# Altium footprint library AMP Footprints.PcbLib: 903 footprints (part 34 of 58)
Each footprint in its own frame and in the unit in brackets; x right, y up, seen from the top. Pads: shape width x height; smd on the part's side, far side on the other; paste and mask are expansions set on the pad; w line width, h text height; cw(c..) or ccw(c..) is an arc to the next point about the centre after c.
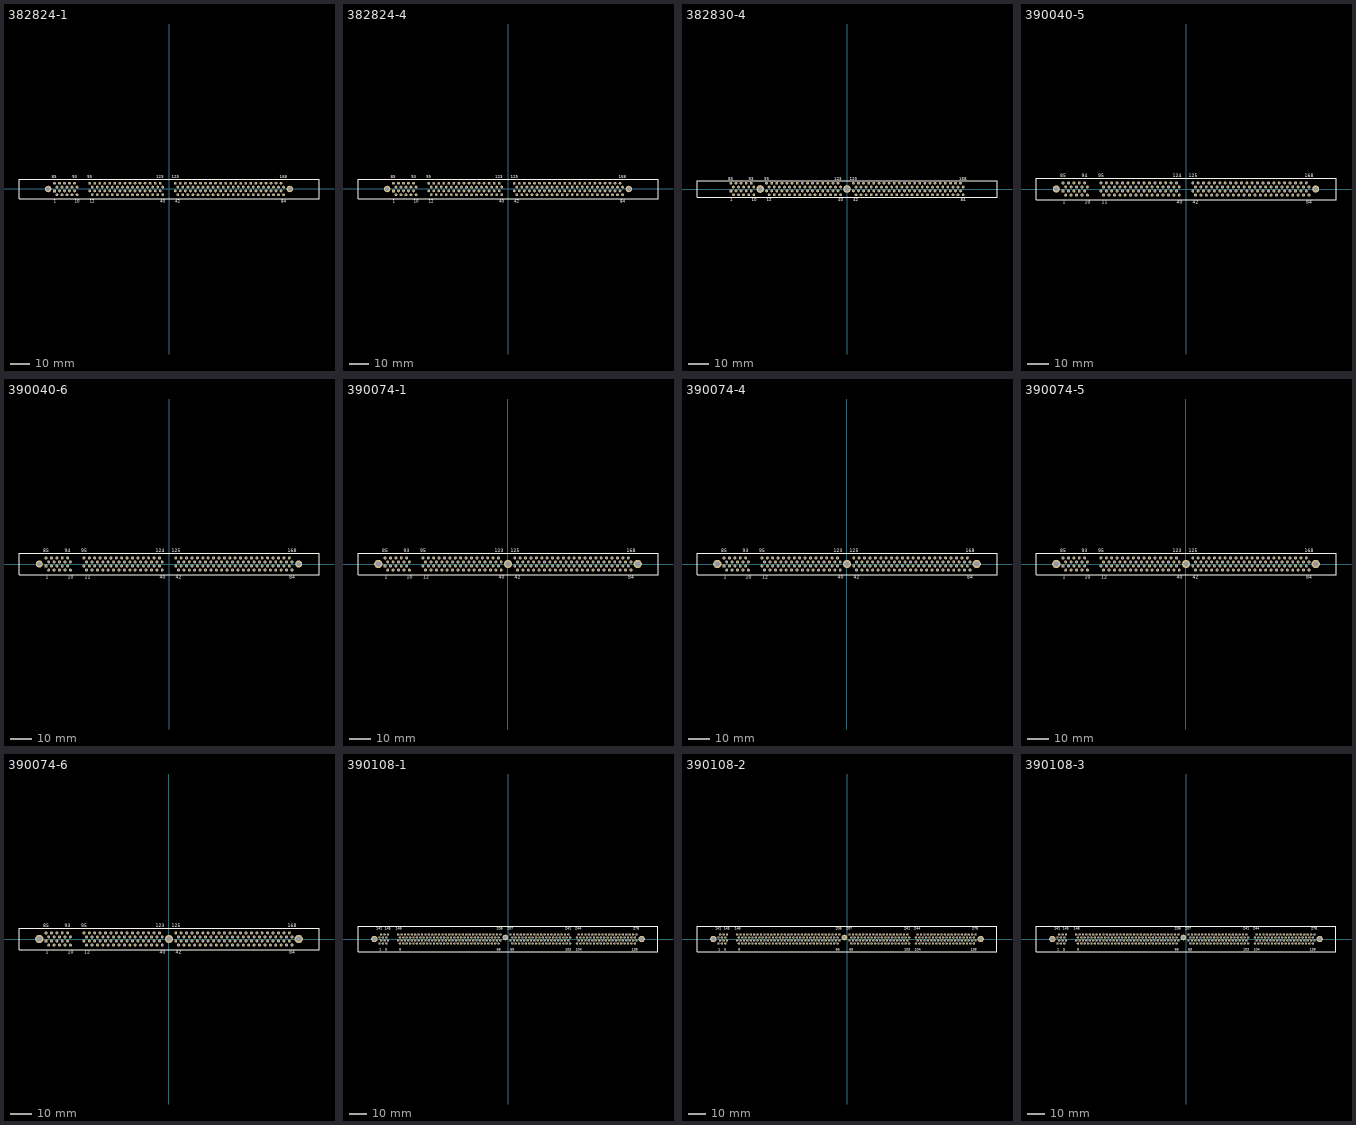
[diagram p33: the footprints below, top view; thin cyan lines are the x and y axes]

## 382824-1 [mm] "Connector; SIMM II; 168 Position; Vertical"
height 22.61
pads (170):
  rect 1.4x1.4 hole 0.78: 1(-57.785,-0.955)
  round 1.4 hole 0.78: 2(-56.515,-2.865) 3(-55.245,-0.955) 4(-53.975,-2.865) 5(-52.705,-0.955) 6(-51.435,-2.865) 7(-50.165,-0.955) 8(-48.895,-2.865) 9(-47.625,-0.955) 10(-46.355,-2.865) 11(-40.005,-0.955) 12(-38.735,-2.865) 13(-37.465,-0.955) 14(-36.195,-2.865) 15(-34.925,-0.955) 16(-33.655,-2.865) 17(-32.385,-0.955) 18(-31.115,-2.865) 19(-29.845,-0.955) 20(-28.575,-2.865) 21(-27.305,-0.955) 22(-26.035,-2.865) 23(-24.765,-0.955) 24(-23.495,-2.865) 25(-22.225,-0.955) 26(-20.955,-2.865) 27(-19.685,-0.955) 28(-18.415,-2.865) 29(-17.145,-0.955) 30(-15.875,-2.865) 31(-14.605,-0.955) 32(-13.335,-2.865) 33(-12.065,-0.955) 34(-10.795,-2.865) 35(-9.525,-0.955) 36(-8.255,-2.865) 37(-6.985,-0.955) 38(-5.715,-2.865) 39(-4.445,-0.955) 40(-3.175,-2.865) 41(3.175,-0.955) 42(4.445,-2.865) 43(5.715,-0.955) 44(6.985,-2.865) 45(8.255,-0.955) 46(9.525,-2.865) 47(10.795,-0.955) 48(12.065,-2.865) 49(13.335,-0.955) 50(14.605,-2.865) 51(15.875,-0.955) 52(17.145,-2.865) 53(18.415,-0.955) 54(19.685,-2.865) 55(20.955,-0.955) 56(22.225,-2.865) 57(23.495,-0.955) 58(24.765,-2.865) 59(26.035,-0.955) 60(27.305,-2.865) 61(28.575,-0.955) 62(29.845,-2.865) 63(31.115,-0.955) 64(32.385,-2.865) 65(33.655,-0.955) 66(34.925,-2.865) 67(36.195,-0.955) 68(37.465,-2.865) 69(38.735,-0.955) 70(40.005,-2.865) 71(41.275,-0.955) 72(42.545,-2.865) 73(43.815,-0.955) 74(45.085,-2.865) 75(46.355,-0.955) 76(47.625,-2.865) 77(48.895,-0.955) 78(50.165,-2.865) 79(51.435,-0.955) 80(52.705,-2.865) 81(53.975,-0.955) 82(55.245,-2.865) 83(56.515,-0.955) 84(57.785,-2.865) 85(-57.785,2.865) 86(-56.515,0.955) 87(-55.245,2.865) 88(-53.975,0.955) 89(-52.705,2.865) 90(-51.435,0.955) 91(-50.165,2.865) 92(-48.895,0.955) 93(-47.625,2.865) 94(-46.355,0.955) 95(-40.005,2.865) 96(-38.735,0.955) 97(-37.465,2.865) 98(-36.195,0.955) 99(-34.925,2.865) 100(-33.655,0.955) 101(-32.385,2.865) 102(-31.115,0.955) 103(-29.845,2.865) 104(-28.575,0.955) 105(-27.305,2.865) 106(-26.035,0.955) 107(-24.765,2.865) 108(-23.495,0.955) 109(-22.225,2.865) 110(-20.955,0.955) 111(-19.685,2.865) 112(-18.415,0.955) 113(-17.145,2.865) 114(-15.875,0.955) 115(-14.605,2.865) 116(-13.335,0.955) 117(-12.065,2.865) 118(-10.795,0.955) 119(-9.525,2.865) 120(-8.255,0.955) 121(-6.985,2.865) 122(-5.715,0.955) 123(-4.445,2.865) 124(-3.175,0.955) 125(3.175,2.865) 126(4.445,0.955) 127(5.715,2.865) 128(6.985,0.955) 129(8.255,2.865) 130(9.525,0.955) 131(10.795,2.865) 132(12.065,0.955) 133(13.335,2.865) 134(14.605,0.955) 135(15.875,2.865) 136(17.145,0.955) 137(18.415,2.865) 138(19.685,0.955) 139(20.955,2.865) 140(22.225,0.955) 141(23.495,2.865) 142(24.765,0.955) 143(26.035,2.865) 144(27.305,0.955) 145(28.575,2.865) 146(29.845,0.955) 147(31.115,2.865) 148(32.385,0.955) 149(33.655,2.865) 150(34.925,0.955) 151(36.195,2.865) 152(37.465,0.955) 153(38.735,2.865) 154(40.005,0.955) 155(41.275,2.865) 156(42.545,0.955) 157(43.815,2.865) 158(45.085,0.955) 159(46.355,2.865) 160(47.625,0.955) 161(48.895,2.865) 162(50.165,0.955) 163(51.435,2.865) 164(52.705,0.955) 165(53.975,2.865) 166(55.245,0.955) 167(56.515,2.865) 168(57.785,0.955)
  round 3.3 hole 2.03: 169(-60.955,-0.005) 170(60.955,-0.005)
Top Overlay:
  lines w0.2: -75.65,-5.005 -75.65,4.995 75.65,4.995 75.65,-5.005 -75.65,-5.005
  text "1" at -58.035,-6.98 h1.5
  text "85" at -59.035,5.47 h1.5
  text "10" at -47.48,-6.98 h1.5
  text "12" at -39.86,-6.98 h1.5
  text "95" at -41.255,5.47 h1.5
  text "40" at -4.425,-6.98 h1.5
  text "123" at -6.32,5.47 h1.5
  text "42" at 3.195,-6.98 h1.5
  text "125" at 1.3,5.47 h1.5
  text "84" at 56.535,-6.98 h1.5
  text "168" at 55.91,5.47 h1.5
  text "93" at -48.875,5.47 h1.5

## 382824-4 [mm] "Connector; SIMM II; 168 Position; Vertical"
height 22.61
pads (170):
  rect 1.4x1.4 hole 0.78: 1(-57.785,-0.955)
  round 1.4 hole 0.78: 2(-56.515,-2.865) 3(-55.245,-0.955) 4(-53.975,-2.865) 5(-52.705,-0.955) 6(-51.435,-2.865) 7(-50.165,-0.955) 8(-48.895,-2.865) 9(-47.625,-0.955) 10(-46.355,-2.865) 11(-40.005,-0.955) 12(-38.735,-2.865) 13(-37.465,-0.955) 14(-36.195,-2.865) 15(-34.925,-0.955) 16(-33.655,-2.865) 17(-32.385,-0.955) 18(-31.115,-2.865) 19(-29.845,-0.955) 20(-28.575,-2.865) 21(-27.305,-0.955) 22(-26.035,-2.865) 23(-24.765,-0.955) 24(-23.495,-2.865) 25(-22.225,-0.955) 26(-20.955,-2.865) 27(-19.685,-0.955) 28(-18.415,-2.865) 29(-17.145,-0.955) 30(-15.875,-2.865) 31(-14.605,-0.955) 32(-13.335,-2.865) 33(-12.065,-0.955) 34(-10.795,-2.865) 35(-9.525,-0.955) 36(-8.255,-2.865) 37(-6.985,-0.955) 38(-5.715,-2.865) 39(-4.445,-0.955) 40(-3.175,-2.865) 41(3.175,-0.955) 42(4.445,-2.865) 43(5.715,-0.955) 44(6.985,-2.865) 45(8.255,-0.955) 46(9.525,-2.865) 47(10.795,-0.955) 48(12.065,-2.865) 49(13.335,-0.955) 50(14.605,-2.865) 51(15.875,-0.955) 52(17.145,-2.865) 53(18.415,-0.955) 54(19.685,-2.865) 55(20.955,-0.955) 56(22.225,-2.865) 57(23.495,-0.955) 58(24.765,-2.865) 59(26.035,-0.955) 60(27.305,-2.865) 61(28.575,-0.955) 62(29.845,-2.865) 63(31.115,-0.955) 64(32.385,-2.865) 65(33.655,-0.955) 66(34.925,-2.865) 67(36.195,-0.955) 68(37.465,-2.865) 69(38.735,-0.955) 70(40.005,-2.865) 71(41.275,-0.955) 72(42.545,-2.865) 73(43.815,-0.955) 74(45.085,-2.865) 75(46.355,-0.955) 76(47.625,-2.865) 77(48.895,-0.955) 78(50.165,-2.865) 79(51.435,-0.955) 80(52.705,-2.865) 81(53.975,-0.955) 82(55.245,-2.865) 83(56.515,-0.955) 84(57.785,-2.865) 85(-57.785,2.865) 86(-56.515,0.955) 87(-55.245,2.865) 88(-53.975,0.955) 89(-52.705,2.865) 90(-51.435,0.955) 91(-50.165,2.865) 92(-48.895,0.955) 93(-47.625,2.865) 94(-46.355,0.955) 95(-40.005,2.865) 96(-38.735,0.955) 97(-37.465,2.865) 98(-36.195,0.955) 99(-34.925,2.865) 100(-33.655,0.955) 101(-32.385,2.865) 102(-31.115,0.955) 103(-29.845,2.865) 104(-28.575,0.955) 105(-27.305,2.865) 106(-26.035,0.955) 107(-24.765,2.865) 108(-23.495,0.955) 109(-22.225,2.865) 110(-20.955,0.955) 111(-19.685,2.865) 112(-18.415,0.955) 113(-17.145,2.865) 114(-15.875,0.955) 115(-14.605,2.865) 116(-13.335,0.955) 117(-12.065,2.865) 118(-10.795,0.955) 119(-9.525,2.865) 120(-8.255,0.955) 121(-6.985,2.865) 122(-5.715,0.955) 123(-4.445,2.865) 124(-3.175,0.955) 125(3.175,2.865) 126(4.445,0.955) 127(5.715,2.865) 128(6.985,0.955) 129(8.255,2.865) 130(9.525,0.955) 131(10.795,2.865) 132(12.065,0.955) 133(13.335,2.865) 134(14.605,0.955) 135(15.875,2.865) 136(17.145,0.955) 137(18.415,2.865) 138(19.685,0.955) 139(20.955,2.865) 140(22.225,0.955) 141(23.495,2.865) 142(24.765,0.955) 143(26.035,2.865) 144(27.305,0.955) 145(28.575,2.865) 146(29.845,0.955) 147(31.115,2.865) 148(32.385,0.955) 149(33.655,2.865) 150(34.925,0.955) 151(36.195,2.865) 152(37.465,0.955) 153(38.735,2.865) 154(40.005,0.955) 155(41.275,2.865) 156(42.545,0.955) 157(43.815,2.865) 158(45.085,0.955) 159(46.355,2.865) 160(47.625,0.955) 161(48.895,2.865) 162(50.165,0.955) 163(51.435,2.865) 164(52.705,0.955) 165(53.975,2.865) 166(55.245,0.955) 167(56.515,2.865) 168(57.785,0.955)
  round 3.3 hole 2.03: 169(-60.955,-0.005) 170(60.955,-0.005)
Top Overlay:
  lines w0.2: -75.65,-5.005 -75.65,4.995 75.65,4.995 75.65,-5.005 -75.65,-5.005
  text "1" at -58.035,-6.98 h1.5
  text "85" at -59.035,5.47 h1.5
  text "10" at -47.48,-6.98 h1.5
  text "12" at -39.86,-6.98 h1.5
  text "95" at -41.255,5.47 h1.5
  text "40" at -4.425,-6.98 h1.5
  text "123" at -6.32,5.47 h1.5
  text "42" at 3.195,-6.98 h1.5
  text "125" at 1.3,5.47 h1.5
  text "84" at 56.535,-6.98 h1.5
  text "168" at 55.91,5.47 h1.5
  text "93" at -48.875,5.47 h1.5

## 382830-4 [mm] "Connector; SIMM II; 168 Position; Vertical"
height 12.78
pads (170):
  rect 1.4x1.4 hole 0.81: 1(-57.785,-0.955)
  round 1.4 hole 0.81: 2(-56.515,-2.865) 3(-55.245,-0.955) 4(-53.975,-2.865) 5(-52.705,-0.955) 6(-51.435,-2.865) 7(-50.165,-0.955) 8(-48.895,-2.865) 9(-47.625,-0.955) 10(-46.355,-2.865) 11(-40.005,-0.955) 12(-38.735,-2.865) 13(-37.465,-0.955) 14(-36.195,-2.865) 15(-34.925,-0.955) 16(-33.655,-2.865) 17(-32.385,-0.955) 18(-31.115,-2.865) 19(-29.845,-0.955) 20(-28.575,-2.865) 21(-27.305,-0.955) 22(-26.035,-2.865) 23(-24.765,-0.955) 24(-23.495,-2.865) 25(-22.225,-0.955) 26(-20.955,-2.865) 27(-19.685,-0.955) 28(-18.415,-2.865) 29(-17.145,-0.955) 30(-15.875,-2.865) 31(-14.605,-0.955) 32(-13.335,-2.865) 33(-12.065,-0.955) 34(-10.795,-2.865) 35(-9.525,-0.955) 36(-8.255,-2.865) 37(-6.985,-0.955) 38(-5.715,-2.865) 39(-4.445,-0.955) 40(-3.175,-2.865) 41(3.175,-0.955) 42(4.445,-2.865) 43(5.715,-0.955) 44(6.985,-2.865) 45(8.255,-0.955) 46(9.525,-2.865) 47(10.795,-0.955) 48(12.065,-2.865) 49(13.335,-0.955) 50(14.605,-2.865) 51(15.875,-0.955) 52(17.145,-2.865) 53(18.415,-0.955) 54(19.685,-2.865) 55(20.955,-0.955) 56(22.225,-2.865) 57(23.495,-0.955) 58(24.765,-2.865) 59(26.035,-0.955) 60(27.305,-2.865) 61(28.575,-0.955) 62(29.845,-2.865) 63(31.115,-0.955) 64(32.385,-2.865) 65(33.655,-0.955) 66(34.925,-2.865) 67(36.195,-0.955) 68(37.465,-2.865) 69(38.735,-0.955) 70(40.005,-2.865) 71(41.275,-0.955) 72(42.545,-2.865) 73(43.815,-0.955) 74(45.085,-2.865) 75(46.355,-0.955) 76(47.625,-2.865) 77(48.895,-0.955) 78(50.165,-2.865) 79(51.435,-0.955) 80(52.705,-2.865) 81(53.975,-0.955) 82(55.245,-2.865) 83(56.515,-0.955) 84(57.785,-2.865) 85(-57.785,2.865) 86(-56.515,0.955) 87(-55.245,2.865) 88(-53.975,0.955) 89(-52.705,2.865) 90(-51.435,0.955) 91(-50.165,2.865) 92(-48.895,0.955) 93(-47.625,2.865) 94(-46.355,0.955) 95(-40.005,2.865) 96(-38.735,0.955) 97(-37.465,2.865) 98(-36.195,0.955) 99(-34.925,2.865) 100(-33.655,0.955) 101(-32.385,2.865) 102(-31.115,0.955) 103(-29.845,2.865) 104(-28.575,0.955) 105(-27.305,2.865) 106(-26.035,0.955) 107(-24.765,2.865) 108(-23.495,0.955) 109(-22.225,2.865) 110(-20.955,0.955) 111(-19.685,2.865) 112(-18.415,0.955) 113(-17.145,2.865) 114(-15.875,0.955) 115(-14.605,2.865) 116(-13.335,0.955) 117(-12.065,2.865) 118(-10.795,0.955) 119(-9.525,2.865) 120(-8.255,0.955) 121(-6.985,2.865) 122(-5.715,0.955) 123(-4.445,2.865) 124(-3.175,0.955) 125(3.175,2.865) 126(4.445,0.955) 127(5.715,2.865) 128(6.985,0.955) 129(8.255,2.865) 130(9.525,0.955) 131(10.795,2.865) 132(12.065,0.955) 133(13.335,2.865) 134(14.605,0.955) 135(15.875,2.865) 136(17.145,0.955) 137(18.415,2.865) 138(19.685,0.955) 139(20.955,2.865) 140(22.225,0.955) 141(23.495,2.865) 142(24.765,0.955) 143(26.035,2.865) 144(27.305,0.955) 145(28.575,2.865) 146(29.845,0.955) 147(31.115,2.865) 148(32.385,0.955) 149(33.655,2.865) 150(34.925,0.955) 151(36.195,2.865) 152(37.465,0.955) 153(38.735,2.865) 154(40.005,0.955) 155(41.275,2.865) 156(42.545,0.955) 157(43.815,2.865) 158(45.085,0.955) 159(46.355,2.865) 160(47.625,0.955) 161(48.895,2.865) 162(50.165,0.955) 163(51.435,2.865) 164(52.705,0.955) 165(53.975,2.865) 166(55.245,0.955) 167(56.515,2.865) 168(57.785,0.955)
  round 3.8 hole 2.36: 169(-43.18,0) 170(0,0)
Top Overlay:
  lines w0.2: -74.625,-4 -74.625,4 74.625,4 74.625,-4 -74.625,-4
  text "1" at -58.035,-5.975 h1.5
  text "85" at -59.035,4.475 h1.5
  text "10" at -47.48,-5.975 h1.5
  text "93" at -48.875,4.475 h1.5
  text "12" at -39.86,-5.975 h1.5
  text "95" at -41.255,4.475 h1.5
  text "40" at -4.425,-5.975 h1.5
  text "123" at -6.32,4.475 h1.5
  text "125" at 1.3,4.475 h1.5
  text "42" at 3.195,-5.975 h1.5
  text "84" at 56.535,-5.975 h1.5
  text "168" at 55.91,4.475 h1.5

## 390040-5 [mm] "Connector; DIMM II; 168 Position; Vertical"
height 23.77
pads (170):
  rect 1.4x1.4 hole 0.8: 1(-57.785,-0.95)
  round 1.4 hole 0.8: 2(-56.515,-2.85) 3(-55.245,-0.95) 4(-53.975,-2.85) 5(-52.705,-0.95) 6(-51.435,-2.85) 7(-50.165,-0.95) 8(-48.895,-2.85) 9(-47.625,-0.95) 10(-46.355,-2.85) 11(-40.005,-0.95) 12(-38.735,-2.85) 13(-37.465,-0.95) 14(-36.195,-2.85) 15(-34.925,-0.95) 16(-33.655,-2.85) 17(-32.385,-0.95) 18(-31.115,-2.85) 19(-29.845,-0.95) 20(-28.575,-2.85) 21(-27.305,-0.95) 22(-26.035,-2.85) 23(-24.765,-0.95) 24(-23.495,-2.85) 25(-22.225,-0.95) 26(-20.955,-2.85) 27(-19.685,-0.95) 28(-18.415,-2.85) 29(-17.145,-0.95) 30(-15.875,-2.85) 31(-14.605,-0.95) 32(-13.335,-2.85) 33(-12.065,-0.95) 34(-10.795,-2.85) 35(-9.525,-0.95) 36(-8.255,-2.85) 37(-6.985,-0.95) 38(-5.715,-2.85) 39(-4.445,-0.95) 40(-3.175,-2.85) 41(3.175,-0.95) 42(4.445,-2.85) 43(5.715,-0.95) 44(6.985,-2.85) 45(8.255,-0.95) 46(9.525,-2.85) 47(10.795,-0.95) 48(12.065,-2.85) 49(13.335,-0.95) 50(14.605,-2.85) 51(15.875,-0.95) 52(17.145,-2.85) 53(18.415,-0.95) 54(19.685,-2.85) 55(20.955,-0.95) 56(22.225,-2.85) 57(23.495,-0.95) 58(24.765,-2.85) 59(26.035,-0.95) 60(27.305,-2.85) 61(28.575,-0.95) 62(29.845,-2.85) 63(31.115,-0.95) 64(32.385,-2.85) 65(33.655,-0.95) 66(34.925,-2.85) 67(36.195,-0.95) 68(37.465,-2.85) 69(38.735,-0.95) 70(40.005,-2.85) 71(41.275,-0.95) 72(42.545,-2.85) 73(43.815,-0.95) 74(45.085,-2.85) 75(46.355,-0.95) 76(47.625,-2.85) 77(48.895,-0.95) 78(50.165,-2.85) 79(51.435,-0.95) 80(52.705,-2.85) 81(53.975,-0.95) 82(55.245,-2.85) 83(56.515,-0.95) 84(57.785,-2.85) 85(-57.785,2.85) 86(-56.515,0.95) 87(-55.245,2.85) 88(-53.975,0.95) 89(-52.705,2.85) 90(-51.435,0.95) 91(-50.165,2.85) 92(-48.895,0.95) 93(-47.625,2.85) 94(-46.355,0.95) 95(-40.005,2.85) 96(-38.735,0.95) 97(-37.465,2.85) 98(-36.195,0.95) 99(-34.925,2.85) 100(-33.655,0.95) 101(-32.385,2.85) 102(-31.115,0.95) 103(-29.845,2.85) 104(-28.575,0.95) 105(-27.305,2.85) 106(-26.035,0.95) 107(-24.765,2.85) 108(-23.495,0.95) 109(-22.225,2.85) 110(-20.955,0.95) 111(-19.685,2.85) 112(-18.415,0.95) 113(-17.145,2.85) 114(-15.875,0.95) 115(-14.605,2.85) 116(-13.335,0.95) 117(-12.065,2.85) 118(-10.795,0.95) 119(-9.525,2.85) 120(-8.255,0.95) 121(-6.985,2.85) 122(-5.715,0.95) 123(-4.445,2.85) 124(-3.175,0.95) 125(3.175,2.85) 126(4.445,0.95) 127(5.715,2.85) 128(6.985,0.95) 129(8.255,2.85) 130(9.525,0.95) 131(10.795,2.85) 132(12.065,0.95) 133(13.335,2.85) 134(14.605,0.95) 135(15.875,2.85) 136(17.145,0.95) 137(18.415,2.85) 138(19.685,0.95) 139(20.955,2.85) 140(22.225,0.95) 141(23.495,2.85) 142(24.765,0.95) 143(26.035,2.85) 144(27.305,0.95) 145(28.575,2.85) 146(29.845,0.95) 147(31.115,2.85) 148(32.385,0.95) 149(33.655,2.85) 150(34.925,0.95) 151(36.195,2.85) 152(37.465,0.95) 153(38.735,2.85) 154(40.005,0.95) 155(41.275,2.85) 156(42.545,0.95) 157(43.815,2.85) 158(45.085,0.95) 159(46.355,2.85) 160(47.625,0.95) 161(48.895,2.85) 162(50.165,0.95) 163(51.435,2.85) 164(52.705,0.95) 165(53.975,2.85) 166(55.245,0.95) 167(56.515,2.85) 168(57.785,0.95)
  round 3.3 hole 2: 169(-60.955,0) 170(60.955,0)
Top Overlay:
  lines w0.2: -70.49,-5 70.49,-5 70.49,5 -70.49,5 -70.49,-5
  text "94" at -48.875,5.475 h1.5
  text "168" at 55.91,5.475 h1.5
  text "84" at 56.535,-6.975 h1.5
  text "125" at 1.3,5.475 h1.5
  text "42" at 3.195,-6.975 h1.5
  text "124" at -6.32,5.475 h1.5
  text "40" at -4.425,-6.975 h1.5
  text "95" at -41.255,5.475 h1.5
  text "11" at -39.61,-6.975 h1.5
  text "10" at -47.48,-6.975 h1.5
  text "85" at -59.035,5.475 h1.5
  text "1" at -58.035,-6.975 h1.5

## 390040-6 [mm] "Connector; DIMM II; 168 Position; Vertical"
height 23.77
pads (170):
  rect 1.4x1.4 hole 0.8: 1(-57.785,-0.95)
  round 1.4 hole 0.8: 2(-56.515,-2.85) 3(-55.245,-0.95) 4(-53.975,-2.85) 5(-52.705,-0.95) 6(-51.435,-2.85) 7(-50.165,-0.95) 8(-48.895,-2.85) 9(-47.625,-0.95) 10(-46.355,-2.85) 11(-40.005,-0.95) 12(-38.735,-2.85) 13(-37.465,-0.95) 14(-36.195,-2.85) 15(-34.925,-0.95) 16(-33.655,-2.85) 17(-32.385,-0.95) 18(-31.115,-2.85) 19(-29.845,-0.95) 20(-28.575,-2.85) 21(-27.305,-0.95) 22(-26.035,-2.85) 23(-24.765,-0.95) 24(-23.495,-2.85) 25(-22.225,-0.95) 26(-20.955,-2.85) 27(-19.685,-0.95) 28(-18.415,-2.85) 29(-17.145,-0.95) 30(-15.875,-2.85) 31(-14.605,-0.95) 32(-13.335,-2.85) 33(-12.065,-0.95) 34(-10.795,-2.85) 35(-9.525,-0.95) 36(-8.255,-2.85) 37(-6.985,-0.95) 38(-5.715,-2.85) 39(-4.445,-0.95) 40(-3.175,-2.85) 41(3.175,-0.95) 42(4.445,-2.85) 43(5.715,-0.95) 44(6.985,-2.85) 45(8.255,-0.95) 46(9.525,-2.85) 47(10.795,-0.95) 48(12.065,-2.85) 49(13.335,-0.95) 50(14.605,-2.85) 51(15.875,-0.95) 52(17.145,-2.85) 53(18.415,-0.95) 54(19.685,-2.85) 55(20.955,-0.95) 56(22.225,-2.85) 57(23.495,-0.95) 58(24.765,-2.85) 59(26.035,-0.95) 60(27.305,-2.85) 61(28.575,-0.95) 62(29.845,-2.85) 63(31.115,-0.95) 64(32.385,-2.85) 65(33.655,-0.95) 66(34.925,-2.85) 67(36.195,-0.95) 68(37.465,-2.85) 69(38.735,-0.95) 70(40.005,-2.85) 71(41.275,-0.95) 72(42.545,-2.85) 73(43.815,-0.95) 74(45.085,-2.85) 75(46.355,-0.95) 76(47.625,-2.85) 77(48.895,-0.95) 78(50.165,-2.85) 79(51.435,-0.95) 80(52.705,-2.85) 81(53.975,-0.95) 82(55.245,-2.85) 83(56.515,-0.95) 84(57.785,-2.85) 85(-57.785,2.85) 86(-56.515,0.95) 87(-55.245,2.85) 88(-53.975,0.95) 89(-52.705,2.85) 90(-51.435,0.95) 91(-50.165,2.85) 92(-48.895,0.95) 93(-47.625,2.85) 94(-46.355,0.95) 95(-40.005,2.85) 96(-38.735,0.95) 97(-37.465,2.85) 98(-36.195,0.95) 99(-34.925,2.85) 100(-33.655,0.95) 101(-32.385,2.85) 102(-31.115,0.95) 103(-29.845,2.85) 104(-28.575,0.95) 105(-27.305,2.85) 106(-26.035,0.95) 107(-24.765,2.85) 108(-23.495,0.95) 109(-22.225,2.85) 110(-20.955,0.95) 111(-19.685,2.85) 112(-18.415,0.95) 113(-17.145,2.85) 114(-15.875,0.95) 115(-14.605,2.85) 116(-13.335,0.95) 117(-12.065,2.85) 118(-10.795,0.95) 119(-9.525,2.85) 120(-8.255,0.95) 121(-6.985,2.85) 122(-5.715,0.95) 123(-4.445,2.85) 124(-3.175,0.95) 125(3.175,2.85) 126(4.445,0.95) 127(5.715,2.85) 128(6.985,0.95) 129(8.255,2.85) 130(9.525,0.95) 131(10.795,2.85) 132(12.065,0.95) 133(13.335,2.85) 134(14.605,0.95) 135(15.875,2.85) 136(17.145,0.95) 137(18.415,2.85) 138(19.685,0.95) 139(20.955,2.85) 140(22.225,0.95) 141(23.495,2.85) 142(24.765,0.95) 143(26.035,2.85) 144(27.305,0.95) 145(28.575,2.85) 146(29.845,0.95) 147(31.115,2.85) 148(32.385,0.95) 149(33.655,2.85) 150(34.925,0.95) 151(36.195,2.85) 152(37.465,0.95) 153(38.735,2.85) 154(40.005,0.95) 155(41.275,2.85) 156(42.545,0.95) 157(43.815,2.85) 158(45.085,0.95) 159(46.355,2.85) 160(47.625,0.95) 161(48.895,2.85) 162(50.165,0.95) 163(51.435,2.85) 164(52.705,0.95) 165(53.975,2.85) 166(55.245,0.95) 167(56.515,2.85) 168(57.785,0.95)
  round 3.3 hole 2: 169(-60.955,0) 170(60.955,0)
Top Overlay:
  lines w0.2: -70.49,-5 70.49,-5 70.49,5 -70.49,5 -70.49,-5
  text "94" at -48.875,5.475 h1.5
  text "168" at 55.91,5.475 h1.5
  text "84" at 56.535,-6.975 h1.5
  text "125" at 1.3,5.475 h1.5
  text "42" at 3.195,-6.975 h1.5
  text "124" at -6.32,5.475 h1.5
  text "40" at -4.425,-6.975 h1.5
  text "95" at -41.255,5.475 h1.5
  text "11" at -39.61,-6.975 h1.5
  text "10" at -47.48,-6.975 h1.5
  text "85" at -59.035,5.475 h1.5
  text "1" at -58.035,-6.975 h1.5

## 390074-1 [mm] "Connector; DIMM II; 168 Position; Vertical"
height 23.77
pads (171):
  rect 1.4x1.4 hole 0.81: 1(-57.785,-0.95)
  round 1.4 hole 0.81: 2(-56.515,-2.85) 3(-55.245,-0.95) 4(-53.975,-2.85) 5(-52.705,-0.95) 6(-51.435,-2.85) 7(-50.165,-0.95) 8(-48.895,-2.85) 9(-47.625,-0.95) 10(-46.355,-2.85) 11(-40.005,-0.95) 12(-38.735,-2.85) 13(-37.465,-0.95) 14(-36.195,-2.85) 15(-34.925,-0.95) 16(-33.655,-2.85) 17(-32.385,-0.95) 18(-31.115,-2.85) 19(-29.845,-0.95) 20(-28.575,-2.85) 21(-27.305,-0.95) 22(-26.035,-2.85) 23(-24.765,-0.95) 24(-23.495,-2.85) 25(-22.225,-0.95) 26(-20.955,-2.85) 27(-19.685,-0.95) 28(-18.415,-2.85) 29(-17.145,-0.95) 30(-15.875,-2.85) 31(-14.605,-0.95) 32(-13.335,-2.85) 33(-12.065,-0.95) 34(-10.795,-2.85) 35(-9.525,-0.95) 36(-8.255,-2.85) 37(-6.985,-0.95) 38(-5.715,-2.85) 39(-4.445,-0.95) 40(-3.175,-2.85) 41(3.175,-0.95) 42(4.445,-2.85) 43(5.715,-0.95) 44(6.985,-2.85) 45(8.255,-0.95) 46(9.525,-2.85) 47(10.795,-0.95) 48(12.065,-2.85) 49(13.335,-0.95) 50(14.605,-2.85) 51(15.875,-0.95) 52(17.145,-2.85) 53(18.415,-0.95) 54(19.685,-2.85) 55(20.955,-0.95) 56(22.225,-2.85) 57(23.495,-0.95) 58(24.765,-2.85) 59(26.035,-0.95) 60(27.305,-2.85) 61(28.575,-0.95) 62(29.845,-2.85) 63(31.115,-0.95) 64(32.385,-2.85) 65(33.655,-0.95) 66(34.925,-2.85) 67(36.195,-0.95) 68(37.465,-2.85) 69(38.735,-0.95) 70(40.005,-2.85) 71(41.275,-0.95) 72(42.545,-2.85) 73(43.815,-0.95) 74(45.085,-2.85) 75(46.355,-0.95) 76(47.625,-2.85) 77(48.895,-0.95) 78(50.165,-2.85) 79(51.435,-0.95) 80(52.705,-2.85) 81(53.975,-0.95) 82(55.245,-2.85) 83(56.515,-0.95) 84(57.785,-2.85) 85(-57.785,2.85) 86(-56.515,0.95) 87(-55.245,2.85) 88(-53.975,0.95) 89(-52.705,2.85) 90(-51.435,0.95) 91(-50.165,2.85) 92(-48.895,0.95) 93(-47.625,2.85) 94(-46.355,0.95) 95(-40.005,2.85) 96(-38.735,0.95) 97(-37.465,2.85) 98(-36.195,0.95) 99(-34.925,2.85) 100(-33.655,0.95) 101(-32.385,2.85) 102(-31.115,0.95) 103(-29.845,2.85) 104(-28.575,0.95) 105(-27.305,2.85) 106(-26.035,0.95) 107(-24.765,2.85) 108(-23.495,0.95) 109(-22.225,2.85) 110(-20.955,0.95) 111(-19.685,2.85) 112(-18.415,0.95) 113(-17.145,2.85) 114(-15.875,0.95) 115(-14.605,2.85) 116(-13.335,0.95) 117(-12.065,2.85) 118(-10.795,0.95) 119(-9.525,2.85) 120(-8.255,0.95) 121(-6.985,2.85) 122(-5.715,0.95) 123(-4.445,2.85) 124(-3.175,0.95) 125(3.175,2.85) 126(4.445,0.95) 127(5.715,2.85) 128(6.985,0.95) 129(8.255,2.85) 130(9.525,0.95) 131(10.795,2.85) 132(12.065,0.95) 133(13.335,2.85) 134(14.605,0.95) 135(15.875,2.85) 136(17.145,0.95) 137(18.415,2.85) 138(19.685,0.95) 139(20.955,2.85) 140(22.225,0.95) 141(23.495,2.85) 142(24.765,0.95) 143(26.035,2.85) 144(27.305,0.95) 145(28.575,2.85) 146(29.845,0.95) 147(31.115,2.85) 148(32.385,0.95) 149(33.655,2.85) 150(34.925,0.95) 151(36.195,2.85) 152(37.465,0.95) 153(38.735,2.85) 154(40.005,0.95) 155(41.275,2.85) 156(42.545,0.95) 157(43.815,2.85) 158(45.085,0.95) 159(46.355,2.85) 160(47.625,0.95) 161(48.895,2.85) 162(50.165,0.95) 163(51.435,2.85) 164(52.705,0.95) 165(53.975,2.85) 166(55.245,0.95) 167(56.515,2.85) 168(57.785,0.95)
  round 3.9 hole 2.44: 169(-60.955,0) 170(0,0) 171(60.955,0)
Top Overlay:
  lines w0.2: -70.49,-5 70.49,-5 70.49,5 -70.49,5 -70.49,-5
  text "95" at -41.255,5.475 h1.5
  text "12" at -39.86,-6.975 h1.5
  text "1" at -58.035,-6.975 h1.5
  text "85" at -59.035,5.475 h1.5
  text "10" at -47.48,-6.975 h1.5
  text "93" at -48.875,5.475 h1.5
  text "40" at -4.425,-6.975 h1.5
  text "42" at 3.195,-6.975 h1.5
  text "123" at -6.32,5.475 h1.5
  text "125" at 1.3,5.475 h1.5
  text "84" at 56.535,-6.975 h1.5
  text "168" at 55.91,5.475 h1.5

## 390074-4 [mm] "Connector; DIMM II; 168 Position; Vertical"
height 23.77
pads (171):
  rect 1.4x1.4 hole 0.81: 1(-57.785,-0.95)
  round 1.4 hole 0.81: 2(-56.515,-2.85) 3(-55.245,-0.95) 4(-53.975,-2.85) 5(-52.705,-0.95) 6(-51.435,-2.85) 7(-50.165,-0.95) 8(-48.895,-2.85) 9(-47.625,-0.95) 10(-46.355,-2.85) 11(-40.005,-0.95) 12(-38.735,-2.85) 13(-37.465,-0.95) 14(-36.195,-2.85) 15(-34.925,-0.95) 16(-33.655,-2.85) 17(-32.385,-0.95) 18(-31.115,-2.85) 19(-29.845,-0.95) 20(-28.575,-2.85) 21(-27.305,-0.95) 22(-26.035,-2.85) 23(-24.765,-0.95) 24(-23.495,-2.85) 25(-22.225,-0.95) 26(-20.955,-2.85) 27(-19.685,-0.95) 28(-18.415,-2.85) 29(-17.145,-0.95) 30(-15.875,-2.85) 31(-14.605,-0.95) 32(-13.335,-2.85) 33(-12.065,-0.95) 34(-10.795,-2.85) 35(-9.525,-0.95) 36(-8.255,-2.85) 37(-6.985,-0.95) 38(-5.715,-2.85) 39(-4.445,-0.95) 40(-3.175,-2.85) 41(3.175,-0.95) 42(4.445,-2.85) 43(5.715,-0.95) 44(6.985,-2.85) 45(8.255,-0.95) 46(9.525,-2.85) 47(10.795,-0.95) 48(12.065,-2.85) 49(13.335,-0.95) 50(14.605,-2.85) 51(15.875,-0.95) 52(17.145,-2.85) 53(18.415,-0.95) 54(19.685,-2.85) 55(20.955,-0.95) 56(22.225,-2.85) 57(23.495,-0.95) 58(24.765,-2.85) 59(26.035,-0.95) 60(27.305,-2.85) 61(28.575,-0.95) 62(29.845,-2.85) 63(31.115,-0.95) 64(32.385,-2.85) 65(33.655,-0.95) 66(34.925,-2.85) 67(36.195,-0.95) 68(37.465,-2.85) 69(38.735,-0.95) 70(40.005,-2.85) 71(41.275,-0.95) 72(42.545,-2.85) 73(43.815,-0.95) 74(45.085,-2.85) 75(46.355,-0.95) 76(47.625,-2.85) 77(48.895,-0.95) 78(50.165,-2.85) 79(51.435,-0.95) 80(52.705,-2.85) 81(53.975,-0.95) 82(55.245,-2.85) 83(56.515,-0.95) 84(57.785,-2.85) 85(-57.785,2.85) 86(-56.515,0.95) 87(-55.245,2.85) 88(-53.975,0.95) 89(-52.705,2.85) 90(-51.435,0.95) 91(-50.165,2.85) 92(-48.895,0.95) 93(-47.625,2.85) 94(-46.355,0.95) 95(-40.005,2.85) 96(-38.735,0.95) 97(-37.465,2.85) 98(-36.195,0.95) 99(-34.925,2.85) 100(-33.655,0.95) 101(-32.385,2.85) 102(-31.115,0.95) 103(-29.845,2.85) 104(-28.575,0.95) 105(-27.305,2.85) 106(-26.035,0.95) 107(-24.765,2.85) 108(-23.495,0.95) 109(-22.225,2.85) 110(-20.955,0.95) 111(-19.685,2.85) 112(-18.415,0.95) 113(-17.145,2.85) 114(-15.875,0.95) 115(-14.605,2.85) 116(-13.335,0.95) 117(-12.065,2.85) 118(-10.795,0.95) 119(-9.525,2.85) 120(-8.255,0.95) 121(-6.985,2.85) 122(-5.715,0.95) 123(-4.445,2.85) 124(-3.175,0.95) 125(3.175,2.85) 126(4.445,0.95) 127(5.715,2.85) 128(6.985,0.95) 129(8.255,2.85) 130(9.525,0.95) 131(10.795,2.85) 132(12.065,0.95) 133(13.335,2.85) 134(14.605,0.95) 135(15.875,2.85) 136(17.145,0.95) 137(18.415,2.85) 138(19.685,0.95) 139(20.955,2.85) 140(22.225,0.95) 141(23.495,2.85) 142(24.765,0.95) 143(26.035,2.85) 144(27.305,0.95) 145(28.575,2.85) 146(29.845,0.95) 147(31.115,2.85) 148(32.385,0.95) 149(33.655,2.85) 150(34.925,0.95) 151(36.195,2.85) 152(37.465,0.95) 153(38.735,2.85) 154(40.005,0.95) 155(41.275,2.85) 156(42.545,0.95) 157(43.815,2.85) 158(45.085,0.95) 159(46.355,2.85) 160(47.625,0.95) 161(48.895,2.85) 162(50.165,0.95) 163(51.435,2.85) 164(52.705,0.95) 165(53.975,2.85) 166(55.245,0.95) 167(56.515,2.85) 168(57.785,0.95)
  round 3.9 hole 2.44: 169(-60.955,0) 170(0,0) 171(60.955,0)
Top Overlay:
  lines w0.2: -70.49,-5 70.49,-5 70.49,5 -70.49,5 -70.49,-5
  text "95" at -41.255,5.475 h1.5
  text "12" at -39.86,-6.975 h1.5
  text "1" at -58.035,-6.975 h1.5
  text "85" at -59.035,5.475 h1.5
  text "10" at -47.48,-6.975 h1.5
  text "93" at -48.875,5.475 h1.5
  text "40" at -4.425,-6.975 h1.5
  text "42" at 3.195,-6.975 h1.5
  text "123" at -6.32,5.475 h1.5
  text "125" at 1.3,5.475 h1.5
  text "84" at 56.535,-6.975 h1.5
  text "168" at 55.91,5.475 h1.5

## 390074-5 [mm] "Connector; DIMM II; 168 Position; Vertical"
height 23.77
pads (171):
  rect 1.4x1.4 hole 0.81: 1(-57.785,-0.95)
  round 1.4 hole 0.81: 2(-56.515,-2.85) 3(-55.245,-0.95) 4(-53.975,-2.85) 5(-52.705,-0.95) 6(-51.435,-2.85) 7(-50.165,-0.95) 8(-48.895,-2.85) 9(-47.625,-0.95) 10(-46.355,-2.85) 11(-40.005,-0.95) 12(-38.735,-2.85) 13(-37.465,-0.95) 14(-36.195,-2.85) 15(-34.925,-0.95) 16(-33.655,-2.85) 17(-32.385,-0.95) 18(-31.115,-2.85) 19(-29.845,-0.95) 20(-28.575,-2.85) 21(-27.305,-0.95) 22(-26.035,-2.85) 23(-24.765,-0.95) 24(-23.495,-2.85) 25(-22.225,-0.95) 26(-20.955,-2.85) 27(-19.685,-0.95) 28(-18.415,-2.85) 29(-17.145,-0.95) 30(-15.875,-2.85) 31(-14.605,-0.95) 32(-13.335,-2.85) 33(-12.065,-0.95) 34(-10.795,-2.85) 35(-9.525,-0.95) 36(-8.255,-2.85) 37(-6.985,-0.95) 38(-5.715,-2.85) 39(-4.445,-0.95) 40(-3.175,-2.85) 41(3.175,-0.95) 42(4.445,-2.85) 43(5.715,-0.95) 44(6.985,-2.85) 45(8.255,-0.95) 46(9.525,-2.85) 47(10.795,-0.95) 48(12.065,-2.85) 49(13.335,-0.95) 50(14.605,-2.85) 51(15.875,-0.95) 52(17.145,-2.85) 53(18.415,-0.95) 54(19.685,-2.85) 55(20.955,-0.95) 56(22.225,-2.85) 57(23.495,-0.95) 58(24.765,-2.85) 59(26.035,-0.95) 60(27.305,-2.85) 61(28.575,-0.95) 62(29.845,-2.85) 63(31.115,-0.95) 64(32.385,-2.85) 65(33.655,-0.95) 66(34.925,-2.85) 67(36.195,-0.95) 68(37.465,-2.85) 69(38.735,-0.95) 70(40.005,-2.85) 71(41.275,-0.95) 72(42.545,-2.85) 73(43.815,-0.95) 74(45.085,-2.85) 75(46.355,-0.95) 76(47.625,-2.85) 77(48.895,-0.95) 78(50.165,-2.85) 79(51.435,-0.95) 80(52.705,-2.85) 81(53.975,-0.95) 82(55.245,-2.85) 83(56.515,-0.95) 84(57.785,-2.85) 85(-57.785,2.85) 86(-56.515,0.95) 87(-55.245,2.85) 88(-53.975,0.95) 89(-52.705,2.85) 90(-51.435,0.95) 91(-50.165,2.85) 92(-48.895,0.95) 93(-47.625,2.85) 94(-46.355,0.95) 95(-40.005,2.85) 96(-38.735,0.95) 97(-37.465,2.85) 98(-36.195,0.95) 99(-34.925,2.85) 100(-33.655,0.95) 101(-32.385,2.85) 102(-31.115,0.95) 103(-29.845,2.85) 104(-28.575,0.95) 105(-27.305,2.85) 106(-26.035,0.95) 107(-24.765,2.85) 108(-23.495,0.95) 109(-22.225,2.85) 110(-20.955,0.95) 111(-19.685,2.85) 112(-18.415,0.95) 113(-17.145,2.85) 114(-15.875,0.95) 115(-14.605,2.85) 116(-13.335,0.95) 117(-12.065,2.85) 118(-10.795,0.95) 119(-9.525,2.85) 120(-8.255,0.95) 121(-6.985,2.85) 122(-5.715,0.95) 123(-4.445,2.85) 124(-3.175,0.95) 125(3.175,2.85) 126(4.445,0.95) 127(5.715,2.85) 128(6.985,0.95) 129(8.255,2.85) 130(9.525,0.95) 131(10.795,2.85) 132(12.065,0.95) 133(13.335,2.85) 134(14.605,0.95) 135(15.875,2.85) 136(17.145,0.95) 137(18.415,2.85) 138(19.685,0.95) 139(20.955,2.85) 140(22.225,0.95) 141(23.495,2.85) 142(24.765,0.95) 143(26.035,2.85) 144(27.305,0.95) 145(28.575,2.85) 146(29.845,0.95) 147(31.115,2.85) 148(32.385,0.95) 149(33.655,2.85) 150(34.925,0.95) 151(36.195,2.85) 152(37.465,0.95) 153(38.735,2.85) 154(40.005,0.95) 155(41.275,2.85) 156(42.545,0.95) 157(43.815,2.85) 158(45.085,0.95) 159(46.355,2.85) 160(47.625,0.95) 161(48.895,2.85) 162(50.165,0.95) 163(51.435,2.85) 164(52.705,0.95) 165(53.975,2.85) 166(55.245,0.95) 167(56.515,2.85) 168(57.785,0.95)
  round 3.9 hole 2.44: 169(-60.955,0) 170(0,0) 171(60.955,0)
Top Overlay:
  lines w0.2: -70.49,-5 70.49,-5 70.49,5 -70.49,5 -70.49,-5
  text "95" at -41.255,5.475 h1.5
  text "12" at -39.86,-6.975 h1.5
  text "1" at -58.035,-6.975 h1.5
  text "85" at -59.035,5.475 h1.5
  text "10" at -47.48,-6.975 h1.5
  text "93" at -48.875,5.475 h1.5
  text "40" at -4.425,-6.975 h1.5
  text "42" at 3.195,-6.975 h1.5
  text "123" at -6.32,5.475 h1.5
  text "125" at 1.3,5.475 h1.5
  text "84" at 56.535,-6.975 h1.5
  text "168" at 55.91,5.475 h1.5

## 390074-6 [mm] "Connector; DIMM II; 168 Position; Vertical"
height 23.77
pads (171):
  rect 1.4x1.4 hole 0.81: 1(-57.785,-0.95)
  round 1.4 hole 0.81: 2(-56.515,-2.85) 3(-55.245,-0.95) 4(-53.975,-2.85) 5(-52.705,-0.95) 6(-51.435,-2.85) 7(-50.165,-0.95) 8(-48.895,-2.85) 9(-47.625,-0.95) 10(-46.355,-2.85) 11(-40.005,-0.95) 12(-38.735,-2.85) 13(-37.465,-0.95) 14(-36.195,-2.85) 15(-34.925,-0.95) 16(-33.655,-2.85) 17(-32.385,-0.95) 18(-31.115,-2.85) 19(-29.845,-0.95) 20(-28.575,-2.85) 21(-27.305,-0.95) 22(-26.035,-2.85) 23(-24.765,-0.95) 24(-23.495,-2.85) 25(-22.225,-0.95) 26(-20.955,-2.85) 27(-19.685,-0.95) 28(-18.415,-2.85) 29(-17.145,-0.95) 30(-15.875,-2.85) 31(-14.605,-0.95) 32(-13.335,-2.85) 33(-12.065,-0.95) 34(-10.795,-2.85) 35(-9.525,-0.95) 36(-8.255,-2.85) 37(-6.985,-0.95) 38(-5.715,-2.85) 39(-4.445,-0.95) 40(-3.175,-2.85) 41(3.175,-0.95) 42(4.445,-2.85) 43(5.715,-0.95) 44(6.985,-2.85) 45(8.255,-0.95) 46(9.525,-2.85) 47(10.795,-0.95) 48(12.065,-2.85) 49(13.335,-0.95) 50(14.605,-2.85) 51(15.875,-0.95) 52(17.145,-2.85) 53(18.415,-0.95) 54(19.685,-2.85) 55(20.955,-0.95) 56(22.225,-2.85) 57(23.495,-0.95) 58(24.765,-2.85) 59(26.035,-0.95) 60(27.305,-2.85) 61(28.575,-0.95) 62(29.845,-2.85) 63(31.115,-0.95) 64(32.385,-2.85) 65(33.655,-0.95) 66(34.925,-2.85) 67(36.195,-0.95) 68(37.465,-2.85) 69(38.735,-0.95) 70(40.005,-2.85) 71(41.275,-0.95) 72(42.545,-2.85) 73(43.815,-0.95) 74(45.085,-2.85) 75(46.355,-0.95) 76(47.625,-2.85) 77(48.895,-0.95) 78(50.165,-2.85) 79(51.435,-0.95) 80(52.705,-2.85) 81(53.975,-0.95) 82(55.245,-2.85) 83(56.515,-0.95) 84(57.785,-2.85) 85(-57.785,2.85) 86(-56.515,0.95) 87(-55.245,2.85) 88(-53.975,0.95) 89(-52.705,2.85) 90(-51.435,0.95) 91(-50.165,2.85) 92(-48.895,0.95) 93(-47.625,2.85) 94(-46.355,0.95) 95(-40.005,2.85) 96(-38.735,0.95) 97(-37.465,2.85) 98(-36.195,0.95) 99(-34.925,2.85) 100(-33.655,0.95) 101(-32.385,2.85) 102(-31.115,0.95) 103(-29.845,2.85) 104(-28.575,0.95) 105(-27.305,2.85) 106(-26.035,0.95) 107(-24.765,2.85) 108(-23.495,0.95) 109(-22.225,2.85) 110(-20.955,0.95) 111(-19.685,2.85) 112(-18.415,0.95) 113(-17.145,2.85) 114(-15.875,0.95) 115(-14.605,2.85) 116(-13.335,0.95) 117(-12.065,2.85) 118(-10.795,0.95) 119(-9.525,2.85) 120(-8.255,0.95) 121(-6.985,2.85) 122(-5.715,0.95) 123(-4.445,2.85) 124(-3.175,0.95) 125(3.175,2.85) 126(4.445,0.95) 127(5.715,2.85) 128(6.985,0.95) 129(8.255,2.85) 130(9.525,0.95) 131(10.795,2.85) 132(12.065,0.95) 133(13.335,2.85) 134(14.605,0.95) 135(15.875,2.85) 136(17.145,0.95) 137(18.415,2.85) 138(19.685,0.95) 139(20.955,2.85) 140(22.225,0.95) 141(23.495,2.85) 142(24.765,0.95) 143(26.035,2.85) 144(27.305,0.95) 145(28.575,2.85) 146(29.845,0.95) 147(31.115,2.85) 148(32.385,0.95) 149(33.655,2.85) 150(34.925,0.95) 151(36.195,2.85) 152(37.465,0.95) 153(38.735,2.85) 154(40.005,0.95) 155(41.275,2.85) 156(42.545,0.95) 157(43.815,2.85) 158(45.085,0.95) 159(46.355,2.85) 160(47.625,0.95) 161(48.895,2.85) 162(50.165,0.95) 163(51.435,2.85) 164(52.705,0.95) 165(53.975,2.85) 166(55.245,0.95) 167(56.515,2.85) 168(57.785,0.95)
  round 3.9 hole 2.44: 169(-60.955,0) 170(0,0) 171(60.955,0)
Top Overlay:
  lines w0.2: -70.49,-5 70.49,-5 70.49,5 -70.49,5 -70.49,-5
  text "95" at -41.255,5.475 h1.5
  text "12" at -39.86,-6.975 h1.5
  text "1" at -58.035,-6.975 h1.5
  text "85" at -59.035,5.475 h1.5
  text "10" at -47.48,-6.975 h1.5
  text "93" at -48.875,5.475 h1.5
  text "40" at -4.425,-6.975 h1.5
  text "42" at 3.195,-6.975 h1.5
  text "123" at -6.32,5.475 h1.5
  text "125" at 1.3,5.475 h1.5
  text "84" at 56.535,-6.975 h1.5
  text "168" at 55.91,5.475 h1.5

## 390108-1 [mm] "Connector; DIMM II; 278 Position; Vertical"
height 23.41
pads (281):
  rect 1.4x1.4 hole 0.76: 1(-75.5,-2.625)
  round 1.4 hole 0.76: 2(-74.5,-0.875) 3(-73.5,-2.625) 4(-72.5,-0.875) 5(-71.5,-2.625) 6(-70.5,-0.875) 7(-64.5,-0.875) 8(-63.5,-2.625) 9(-62.5,-0.875) 10(-61.5,-2.625) 11(-60.5,-0.875) 12(-59.5,-2.625) 13(-58.5,-0.875) 14(-57.5,-2.625) 15(-56.5,-0.875) 16(-55.5,-2.625) 17(-54.5,-0.875) 18(-53.5,-2.625) 19(-52.5,-0.875) 20(-51.5,-2.625) 21(-50.5,-0.875) 22(-49.5,-2.625) 23(-48.5,-0.875) 24(-47.5,-2.625) 25(-46.5,-0.875) 26(-45.5,-2.625) 27(-44.5,-0.875) 28(-43.5,-2.625) 29(-42.5,-0.875) 30(-41.5,-2.625) 31(-40.5,-0.875) 32(-39.5,-2.625) 33(-38.5,-0.875) 34(-37.5,-2.625) 35(-36.5,-0.875) 36(-35.5,-2.625) 37(-34.5,-0.875) 38(-33.5,-2.625) 39(-32.5,-0.875) 40(-31.5,-2.625) 41(-30.5,-0.875) 42(-29.5,-2.625) 43(-28.5,-0.875) 44(-27.5,-2.625) 45(-26.5,-0.875) 46(-25.5,-2.625) 47(-24.5,-0.875) 48(-23.5,-2.625) 49(-22.5,-0.875) 50(-21.5,-2.625) 51(-20.5,-0.875) 52(-19.5,-2.625) 53(-18.5,-0.875) 54(-17.5,-2.625) 55(-16.5,-0.875) 56(-15.5,-2.625) 57(-14.5,-0.875) 58(-13.5,-2.625) 59(-12.5,-0.875) 60(-11.5,-2.625) 61(-10.5,-0.875) 62(-9.5,-2.625) 63(-8.5,-0.875) 64(-7.5,-2.625) 65(-6.5,-0.875) 66(-5.5,-2.625) 67(-4.5,-0.875) 68(1.5,-0.875) 69(2.5,-2.625) 70(3.5,-0.875) 71(4.5,-2.625) 72(5.5,-0.875) 73(6.5,-2.625) 74(7.5,-0.875) 75(8.5,-2.625) 76(9.5,-0.875) 77(10.5,-2.625) 78(11.5,-0.875) 79(12.5,-2.625) 80(13.5,-0.875) 81(14.5,-2.625) 82(15.5,-0.875) 83(16.5,-2.625) 84(17.5,-0.875) 85(18.5,-2.625) 86(19.5,-0.875) 87(20.5,-2.625) 88(21.5,-0.875) 89(22.5,-2.625) 90(23.5,-0.875) 91(24.5,-2.625) 92(25.5,-0.875) 93(26.5,-2.625) 94(27.5,-0.875) 95(28.5,-2.625) 96(29.5,-0.875) 97(30.5,-2.625) 98(31.5,-0.875) 99(32.5,-2.625) 100(33.5,-0.875) 101(34.5,-2.625) 102(35.5,-0.875) 103(36.5,-2.625) 104(40.5,-2.625) 105(41.5,-0.875) 106(42.5,-2.625) 107(43.5,-0.875) 108(44.5,-2.625) 109(45.5,-0.875) 110(46.5,-2.625) 111(47.5,-0.875) 112(48.5,-2.625) 113(49.5,-0.875) 114(50.5,-2.625) 115(51.5,-0.875) 116(52.5,-2.625) 117(53.5,-0.875) 118(54.5,-2.625) 119(55.5,-0.875) 120(56.5,-2.625) 121(57.5,-0.875) 122(58.5,-2.625) 123(59.5,-0.875) 124(60.5,-2.625) 125(61.5,-0.875) 126(62.5,-2.625) 127(63.5,-0.875) 128(64.5,-2.625) 129(65.5,-0.875) 130(66.5,-2.625) 131(67.5,-0.875) 132(68.5,-2.625) 133(69.5,-0.875) 134(70.5,-2.625) 135(71.5,-0.875) 136(72.5,-2.625) 137(73.5,-0.875) 138(74.5,-2.625) 139(75.5,-0.875) 140(-75.5,0.875) 141(-74.5,2.625) 142(-73.5,0.875) 143(-72.5,2.625) 144(-71.5,0.875) 145(-70.5,2.625) 146(-64.5,2.625) 147(-63.5,0.875) 148(-62.5,2.625) 149(-61.5,0.875) 150(-60.5,2.625) 151(-59.5,0.875) 152(-58.5,2.625) 153(-57.5,0.875) 154(-56.5,2.625) 155(-55.5,0.875) 156(-54.5,2.625) 157(-53.5,0.875) 158(-52.5,2.625) 159(-51.5,0.875) 160(-50.5,2.625) 161(-49.5,0.875) 162(-48.5,2.625) 163(-47.5,0.875) 164(-46.5,2.625) 165(-45.5,0.875) 166(-44.5,2.625) 167(-43.5,0.875) 168(-42.5,2.625) 169(-41.5,0.875) 170(-40.5,2.625) 171(-39.5,0.875) 172(-38.5,2.625) 173(-37.5,0.875) 174(-36.5,2.625) 175(-35.5,0.875) 176(-34.5,2.625) 177(-33.5,0.875) 178(-32.5,2.625) 179(-31.5,0.875) 180(-30.5,2.625) 181(-29.5,0.875) 182(-28.5,2.625) 183(-27.5,0.875) 184(-26.5,2.625) 185(-25.5,0.875) 186(-24.5,2.625) 187(-23.5,0.875) 188(-22.5,2.625) 189(-21.5,0.875) 190(-20.5,2.625) 191(-19.5,0.875) 192(-18.5,2.625) 193(-17.5,0.875) 194(-16.5,2.625) 195(-15.5,0.875) 196(-14.5,2.625) 197(-13.5,0.875) 198(-12.5,2.625) 199(-11.5,0.875) 200(-10.5,2.625) 201(-9.5,0.875) 202(-8.5,2.625) 203(-7.5,0.875) 204(-6.5,2.625) 205(-5.5,0.875) 206(-4.5,2.625) 207(1.5,2.625) 208(2.5,0.875) 209(3.5,2.625) 210(4.5,0.875) 211(5.5,2.625) 212(6.5,0.875) 213(7.5,2.625) 214(8.5,0.875) 215(9.5,2.625) 216(10.5,0.875) 217(11.5,2.625) 218(12.5,0.875) 219(13.5,2.625) 220(14.5,0.875) 221(15.5,2.625) 222(16.5,0.875) 223(17.5,2.625) 224(18.5,0.875) 225(19.5,2.625) 226(20.5,0.875) 227(21.5,2.625) 228(22.5,0.875) 229(23.5,2.625) 230(24.5,0.875) 231(25.5,2.625) 232(26.5,0.875) 233(27.5,2.625) 234(28.5,0.875) 235(29.5,2.625) 236(30.5,0.875) 237(31.5,2.625) 238(32.5,0.875) 239(33.5,2.625) 240(34.5,0.875) 241(35.5,2.625) 242(36.5,0.875) 243(40.5,0.875) 244(41.5,2.625) 245(42.5,0.875) 246(43.5,2.625) 247(44.5,0.875) 248(45.5,2.625) 249(46.5,0.875) 250(47.5,2.625) 251(48.5,0.875) 252(49.5,2.625) 253(50.5,0.875) 254(51.5,2.625) 255(52.5,0.875) 256(53.5,2.625) 257(54.5,0.875) 258(55.5,2.625) 259(56.5,0.875) 260(57.5,2.625) 261(58.5,0.875) 262(59.5,2.625) 263(60.5,0.875) 264(61.5,2.625) 265(62.5,0.875) 266(63.5,2.625) 267(64.5,0.875) 268(65.5,2.625) 269(66.5,0.875) 270(67.5,2.625) 271(68.5,0.875) 272(69.5,2.625) 273(70.5,0.875) 274(71.5,2.625) 275(72.5,0.875) 276(73.5,2.625) 277(74.5,0.875) 278(75.5,2.625)
  round 3.8 hole 2.29: 279(-78.5,0) 281(78.5,0)
  round 3.3 hole 2: 280(-1.5,0.88)
Top Overlay:
  lines w0.2: -88.12,-7.5 -88.12,7.5 88.12,7.5 88.12,-7.5 -88.12,-7.5
  text "278" at 73.5,5.525 h1.5
  text "138" at 72.625,-7.025 h1.5
  text "244" at 39.5,5.525 h1.5
  text "104" at 39.75,-7.025 h1.5
  text "241" at 33.5,5.525 h1.5
  text "103" at 33.5,-7.025 h1.5
  text "207" at -0.5,5.525 h1.5
  text "69" at 1.25,-7.025 h1.5
  text "206" at -6.5,5.525 h1.5
  text "66" at -6.75,-7.025 h1.5
  text "146" at -66,5.525 h1.5
  text "8" at -64,-7.025 h1.5
  text "145" at -72.375,5.525 h1.5
  text "5" at -72,-7.025 h1.5
  text "141" at -77.3,5.525 h1.5
  text "1" at -75.75,-7.025 h1.5

## 390108-2 [mm] "Connector; DIMM II; 278 Position; Vertical"
height 23.41
pads (281):
  rect 1.4x1.4 hole 0.76: 1(-75.5,-2.625)
  round 1.4 hole 0.76: 2(-74.5,-0.875) 3(-73.5,-2.625) 4(-72.5,-0.875) 5(-71.5,-2.625) 6(-70.5,-0.875) 7(-64.5,-0.875) 8(-63.5,-2.625) 9(-62.5,-0.875) 10(-61.5,-2.625) 11(-60.5,-0.875) 12(-59.5,-2.625) 13(-58.5,-0.875) 14(-57.5,-2.625) 15(-56.5,-0.875) 16(-55.5,-2.625) 17(-54.5,-0.875) 18(-53.5,-2.625) 19(-52.5,-0.875) 20(-51.5,-2.625) 21(-50.5,-0.875) 22(-49.5,-2.625) 23(-48.5,-0.875) 24(-47.5,-2.625) 25(-46.5,-0.875) 26(-45.5,-2.625) 27(-44.5,-0.875) 28(-43.5,-2.625) 29(-42.5,-0.875) 30(-41.5,-2.625) 31(-40.5,-0.875) 32(-39.5,-2.625) 33(-38.5,-0.875) 34(-37.5,-2.625) 35(-36.5,-0.875) 36(-35.5,-2.625) 37(-34.5,-0.875) 38(-33.5,-2.625) 39(-32.5,-0.875) 40(-31.5,-2.625) 41(-30.5,-0.875) 42(-29.5,-2.625) 43(-28.5,-0.875) 44(-27.5,-2.625) 45(-26.5,-0.875) 46(-25.5,-2.625) 47(-24.5,-0.875) 48(-23.5,-2.625) 49(-22.5,-0.875) 50(-21.5,-2.625) 51(-20.5,-0.875) 52(-19.5,-2.625) 53(-18.5,-0.875) 54(-17.5,-2.625) 55(-16.5,-0.875) 56(-15.5,-2.625) 57(-14.5,-0.875) 58(-13.5,-2.625) 59(-12.5,-0.875) 60(-11.5,-2.625) 61(-10.5,-0.875) 62(-9.5,-2.625) 63(-8.5,-0.875) 64(-7.5,-2.625) 65(-6.5,-0.875) 66(-5.5,-2.625) 67(-4.5,-0.875) 68(1.5,-0.875) 69(2.5,-2.625) 70(3.5,-0.875) 71(4.5,-2.625) 72(5.5,-0.875) 73(6.5,-2.625) 74(7.5,-0.875) 75(8.5,-2.625) 76(9.5,-0.875) 77(10.5,-2.625) 78(11.5,-0.875) 79(12.5,-2.625) 80(13.5,-0.875) 81(14.5,-2.625) 82(15.5,-0.875) 83(16.5,-2.625) 84(17.5,-0.875) 85(18.5,-2.625) 86(19.5,-0.875) 87(20.5,-2.625) 88(21.5,-0.875) 89(22.5,-2.625) 90(23.5,-0.875) 91(24.5,-2.625) 92(25.5,-0.875) 93(26.5,-2.625) 94(27.5,-0.875) 95(28.5,-2.625) 96(29.5,-0.875) 97(30.5,-2.625) 98(31.5,-0.875) 99(32.5,-2.625) 100(33.5,-0.875) 101(34.5,-2.625) 102(35.5,-0.875) 103(36.5,-2.625) 104(40.5,-2.625) 105(41.5,-0.875) 106(42.5,-2.625) 107(43.5,-0.875) 108(44.5,-2.625) 109(45.5,-0.875) 110(46.5,-2.625) 111(47.5,-0.875) 112(48.5,-2.625) 113(49.5,-0.875) 114(50.5,-2.625) 115(51.5,-0.875) 116(52.5,-2.625) 117(53.5,-0.875) 118(54.5,-2.625) 119(55.5,-0.875) 120(56.5,-2.625) 121(57.5,-0.875) 122(58.5,-2.625) 123(59.5,-0.875) 124(60.5,-2.625) 125(61.5,-0.875) 126(62.5,-2.625) 127(63.5,-0.875) 128(64.5,-2.625) 129(65.5,-0.875) 130(66.5,-2.625) 131(67.5,-0.875) 132(68.5,-2.625) 133(69.5,-0.875) 134(70.5,-2.625) 135(71.5,-0.875) 136(72.5,-2.625) 137(73.5,-0.875) 138(74.5,-2.625) 139(75.5,-0.875) 140(-75.5,0.875) 141(-74.5,2.625) 142(-73.5,0.875) 143(-72.5,2.625) 144(-71.5,0.875) 145(-70.5,2.625) 146(-64.5,2.625) 147(-63.5,0.875) 148(-62.5,2.625) 149(-61.5,0.875) 150(-60.5,2.625) 151(-59.5,0.875) 152(-58.5,2.625) 153(-57.5,0.875) 154(-56.5,2.625) 155(-55.5,0.875) 156(-54.5,2.625) 157(-53.5,0.875) 158(-52.5,2.625) 159(-51.5,0.875) 160(-50.5,2.625) 161(-49.5,0.875) 162(-48.5,2.625) 163(-47.5,0.875) 164(-46.5,2.625) 165(-45.5,0.875) 166(-44.5,2.625) 167(-43.5,0.875) 168(-42.5,2.625) 169(-41.5,0.875) 170(-40.5,2.625) 171(-39.5,0.875) 172(-38.5,2.625) 173(-37.5,0.875) 174(-36.5,2.625) 175(-35.5,0.875) 176(-34.5,2.625) 177(-33.5,0.875) 178(-32.5,2.625) 179(-31.5,0.875) 180(-30.5,2.625) 181(-29.5,0.875) 182(-28.5,2.625) 183(-27.5,0.875) 184(-26.5,2.625) 185(-25.5,0.875) 186(-24.5,2.625) 187(-23.5,0.875) 188(-22.5,2.625) 189(-21.5,0.875) 190(-20.5,2.625) 191(-19.5,0.875) 192(-18.5,2.625) 193(-17.5,0.875) 194(-16.5,2.625) 195(-15.5,0.875) 196(-14.5,2.625) 197(-13.5,0.875) 198(-12.5,2.625) 199(-11.5,0.875) 200(-10.5,2.625) 201(-9.5,0.875) 202(-8.5,2.625) 203(-7.5,0.875) 204(-6.5,2.625) 205(-5.5,0.875) 206(-4.5,2.625) 207(1.5,2.625) 208(2.5,0.875) 209(3.5,2.625) 210(4.5,0.875) 211(5.5,2.625) 212(6.5,0.875) 213(7.5,2.625) 214(8.5,0.875) 215(9.5,2.625) 216(10.5,0.875) 217(11.5,2.625) 218(12.5,0.875) 219(13.5,2.625) 220(14.5,0.875) 221(15.5,2.625) 222(16.5,0.875) 223(17.5,2.625) 224(18.5,0.875) 225(19.5,2.625) 226(20.5,0.875) 227(21.5,2.625) 228(22.5,0.875) 229(23.5,2.625) 230(24.5,0.875) 231(25.5,2.625) 232(26.5,0.875) 233(27.5,2.625) 234(28.5,0.875) 235(29.5,2.625) 236(30.5,0.875) 237(31.5,2.625) 238(32.5,0.875) 239(33.5,2.625) 240(34.5,0.875) 241(35.5,2.625) 242(36.5,0.875) 243(40.5,0.875) 244(41.5,2.625) 245(42.5,0.875) 246(43.5,2.625) 247(44.5,0.875) 248(45.5,2.625) 249(46.5,0.875) 250(47.5,2.625) 251(48.5,0.875) 252(49.5,2.625) 253(50.5,0.875) 254(51.5,2.625) 255(52.5,0.875) 256(53.5,2.625) 257(54.5,0.875) 258(55.5,2.625) 259(56.5,0.875) 260(57.5,2.625) 261(58.5,0.875) 262(59.5,2.625) 263(60.5,0.875) 264(61.5,2.625) 265(62.5,0.875) 266(63.5,2.625) 267(64.5,0.875) 268(65.5,2.625) 269(66.5,0.875) 270(67.5,2.625) 271(68.5,0.875) 272(69.5,2.625) 273(70.5,0.875) 274(71.5,2.625) 275(72.5,0.875) 276(73.5,2.625) 277(74.5,0.875) 278(75.5,2.625)
  round 3.8 hole 2.29: 279(-78.5,0) 281(78.5,0)
  round 3.3 hole 2: 280(-1.5,0.88)
Top Overlay:
  lines w0.2: -88.12,-7.5 -88.12,7.5 88.12,7.5 88.12,-7.5 -88.12,-7.5
  text "278" at 73.5,5.525 h1.5
  text "138" at 72.625,-7.025 h1.5
  text "244" at 39.5,5.525 h1.5
  text "104" at 39.75,-7.025 h1.5
  text "241" at 33.5,5.525 h1.5
  text "103" at 33.5,-7.025 h1.5
  text "207" at -0.5,5.525 h1.5
  text "69" at 1.25,-7.025 h1.5
  text "206" at -6.5,5.525 h1.5
  text "66" at -6.75,-7.025 h1.5
  text "146" at -66,5.525 h1.5
  text "8" at -64,-7.025 h1.5
  text "145" at -72.375,5.525 h1.5
  text "5" at -72,-7.025 h1.5
  text "141" at -77.3,5.525 h1.5
  text "1" at -75.75,-7.025 h1.5

## 390108-3 [mm] "Connector; DIMM II; 278 Position; Vertical"
height 23.41
pads (281):
  rect 1.4x1.4 hole 0.76: 1(-75.5,-2.625)
  round 1.4 hole 0.76: 2(-74.5,-0.875) 3(-73.5,-2.625) 4(-72.5,-0.875) 5(-71.5,-2.625) 6(-70.5,-0.875) 7(-64.5,-0.875) 8(-63.5,-2.625) 9(-62.5,-0.875) 10(-61.5,-2.625) 11(-60.5,-0.875) 12(-59.5,-2.625) 13(-58.5,-0.875) 14(-57.5,-2.625) 15(-56.5,-0.875) 16(-55.5,-2.625) 17(-54.5,-0.875) 18(-53.5,-2.625) 19(-52.5,-0.875) 20(-51.5,-2.625) 21(-50.5,-0.875) 22(-49.5,-2.625) 23(-48.5,-0.875) 24(-47.5,-2.625) 25(-46.5,-0.875) 26(-45.5,-2.625) 27(-44.5,-0.875) 28(-43.5,-2.625) 29(-42.5,-0.875) 30(-41.5,-2.625) 31(-40.5,-0.875) 32(-39.5,-2.625) 33(-38.5,-0.875) 34(-37.5,-2.625) 35(-36.5,-0.875) 36(-35.5,-2.625) 37(-34.5,-0.875) 38(-33.5,-2.625) 39(-32.5,-0.875) 40(-31.5,-2.625) 41(-30.5,-0.875) 42(-29.5,-2.625) 43(-28.5,-0.875) 44(-27.5,-2.625) 45(-26.5,-0.875) 46(-25.5,-2.625) 47(-24.5,-0.875) 48(-23.5,-2.625) 49(-22.5,-0.875) 50(-21.5,-2.625) 51(-20.5,-0.875) 52(-19.5,-2.625) 53(-18.5,-0.875) 54(-17.5,-2.625) 55(-16.5,-0.875) 56(-15.5,-2.625) 57(-14.5,-0.875) 58(-13.5,-2.625) 59(-12.5,-0.875) 60(-11.5,-2.625) 61(-10.5,-0.875) 62(-9.5,-2.625) 63(-8.5,-0.875) 64(-7.5,-2.625) 65(-6.5,-0.875) 66(-5.5,-2.625) 67(-4.5,-0.875) 68(1.5,-0.875) 69(2.5,-2.625) 70(3.5,-0.875) 71(4.5,-2.625) 72(5.5,-0.875) 73(6.5,-2.625) 74(7.5,-0.875) 75(8.5,-2.625) 76(9.5,-0.875) 77(10.5,-2.625) 78(11.5,-0.875) 79(12.5,-2.625) 80(13.5,-0.875) 81(14.5,-2.625) 82(15.5,-0.875) 83(16.5,-2.625) 84(17.5,-0.875) 85(18.5,-2.625) 86(19.5,-0.875) 87(20.5,-2.625) 88(21.5,-0.875) 89(22.5,-2.625) 90(23.5,-0.875) 91(24.5,-2.625) 92(25.5,-0.875) 93(26.5,-2.625) 94(27.5,-0.875) 95(28.5,-2.625) 96(29.5,-0.875) 97(30.5,-2.625) 98(31.5,-0.875) 99(32.5,-2.625) 100(33.5,-0.875) 101(34.5,-2.625) 102(35.5,-0.875) 103(36.5,-2.625) 104(40.5,-2.625) 105(41.5,-0.875) 106(42.5,-2.625) 107(43.5,-0.875) 108(44.5,-2.625) 109(45.5,-0.875) 110(46.5,-2.625) 111(47.5,-0.875) 112(48.5,-2.625) 113(49.5,-0.875) 114(50.5,-2.625) 115(51.5,-0.875) 116(52.5,-2.625) 117(53.5,-0.875) 118(54.5,-2.625) 119(55.5,-0.875) 120(56.5,-2.625) 121(57.5,-0.875) 122(58.5,-2.625) 123(59.5,-0.875) 124(60.5,-2.625) 125(61.5,-0.875) 126(62.5,-2.625) 127(63.5,-0.875) 128(64.5,-2.625) 129(65.5,-0.875) 130(66.5,-2.625) 131(67.5,-0.875) 132(68.5,-2.625) 133(69.5,-0.875) 134(70.5,-2.625) 135(71.5,-0.875) 136(72.5,-2.625) 137(73.5,-0.875) 138(74.5,-2.625) 139(75.5,-0.875) 140(-75.5,0.875) 141(-74.5,2.625) 142(-73.5,0.875) 143(-72.5,2.625) 144(-71.5,0.875) 145(-70.5,2.625) 146(-64.5,2.625) 147(-63.5,0.875) 148(-62.5,2.625) 149(-61.5,0.875) 150(-60.5,2.625) 151(-59.5,0.875) 152(-58.5,2.625) 153(-57.5,0.875) 154(-56.5,2.625) 155(-55.5,0.875) 156(-54.5,2.625) 157(-53.5,0.875) 158(-52.5,2.625) 159(-51.5,0.875) 160(-50.5,2.625) 161(-49.5,0.875) 162(-48.5,2.625) 163(-47.5,0.875) 164(-46.5,2.625) 165(-45.5,0.875) 166(-44.5,2.625) 167(-43.5,0.875) 168(-42.5,2.625) 169(-41.5,0.875) 170(-40.5,2.625) 171(-39.5,0.875) 172(-38.5,2.625) 173(-37.5,0.875) 174(-36.5,2.625) 175(-35.5,0.875) 176(-34.5,2.625) 177(-33.5,0.875) 178(-32.5,2.625) 179(-31.5,0.875) 180(-30.5,2.625) 181(-29.5,0.875) 182(-28.5,2.625) 183(-27.5,0.875) 184(-26.5,2.625) 185(-25.5,0.875) 186(-24.5,2.625) 187(-23.5,0.875) 188(-22.5,2.625) 189(-21.5,0.875) 190(-20.5,2.625) 191(-19.5,0.875) 192(-18.5,2.625) 193(-17.5,0.875) 194(-16.5,2.625) 195(-15.5,0.875) 196(-14.5,2.625) 197(-13.5,0.875) 198(-12.5,2.625) 199(-11.5,0.875) 200(-10.5,2.625) 201(-9.5,0.875) 202(-8.5,2.625) 203(-7.5,0.875) 204(-6.5,2.625) 205(-5.5,0.875) 206(-4.5,2.625) 207(1.5,2.625) 208(2.5,0.875) 209(3.5,2.625) 210(4.5,0.875) 211(5.5,2.625) 212(6.5,0.875) 213(7.5,2.625) 214(8.5,0.875) 215(9.5,2.625) 216(10.5,0.875) 217(11.5,2.625) 218(12.5,0.875) 219(13.5,2.625) 220(14.5,0.875) 221(15.5,2.625) 222(16.5,0.875) 223(17.5,2.625) 224(18.5,0.875) 225(19.5,2.625) 226(20.5,0.875) 227(21.5,2.625) 228(22.5,0.875) 229(23.5,2.625) 230(24.5,0.875) 231(25.5,2.625) 232(26.5,0.875) 233(27.5,2.625) 234(28.5,0.875) 235(29.5,2.625) 236(30.5,0.875) 237(31.5,2.625) 238(32.5,0.875) 239(33.5,2.625) 240(34.5,0.875) 241(35.5,2.625) 242(36.5,0.875) 243(40.5,0.875) 244(41.5,2.625) 245(42.5,0.875) 246(43.5,2.625) 247(44.5,0.875) 248(45.5,2.625) 249(46.5,0.875) 250(47.5,2.625) 251(48.5,0.875) 252(49.5,2.625) 253(50.5,0.875) 254(51.5,2.625) 255(52.5,0.875) 256(53.5,2.625) 257(54.5,0.875) 258(55.5,2.625) 259(56.5,0.875) 260(57.5,2.625) 261(58.5,0.875) 262(59.5,2.625) 263(60.5,0.875) 264(61.5,2.625) 265(62.5,0.875) 266(63.5,2.625) 267(64.5,0.875) 268(65.5,2.625) 269(66.5,0.875) 270(67.5,2.625) 271(68.5,0.875) 272(69.5,2.625) 273(70.5,0.875) 274(71.5,2.625) 275(72.5,0.875) 276(73.5,2.625) 277(74.5,0.875) 278(75.5,2.625)
  round 3.8 hole 2.29: 279(-78.5,0) 281(78.5,0)
  round 3.3 hole 2: 280(-1.5,0.88)
Top Overlay:
  lines w0.2: -88.12,-7.5 -88.12,7.5 88.12,7.5 88.12,-7.5 -88.12,-7.5
  text "278" at 73.5,5.525 h1.5
  text "138" at 72.625,-7.025 h1.5
  text "244" at 39.5,5.525 h1.5
  text "104" at 39.75,-7.025 h1.5
  text "241" at 33.5,5.525 h1.5
  text "103" at 33.5,-7.025 h1.5
  text "207" at -0.5,5.525 h1.5
  text "69" at 1.25,-7.025 h1.5
  text "206" at -6.5,5.525 h1.5
  text "66" at -6.75,-7.025 h1.5
  text "146" at -66,5.525 h1.5
  text "8" at -64,-7.025 h1.5
  text "145" at -72.375,5.525 h1.5
  text "5" at -72,-7.025 h1.5
  text "141" at -77.3,5.525 h1.5
  text "1" at -75.75,-7.025 h1.5